# EAGLE library part EP13 (library 0TRAFO)
TRANSFORMER 1 primary winding, 2 secondary windings BLOCK
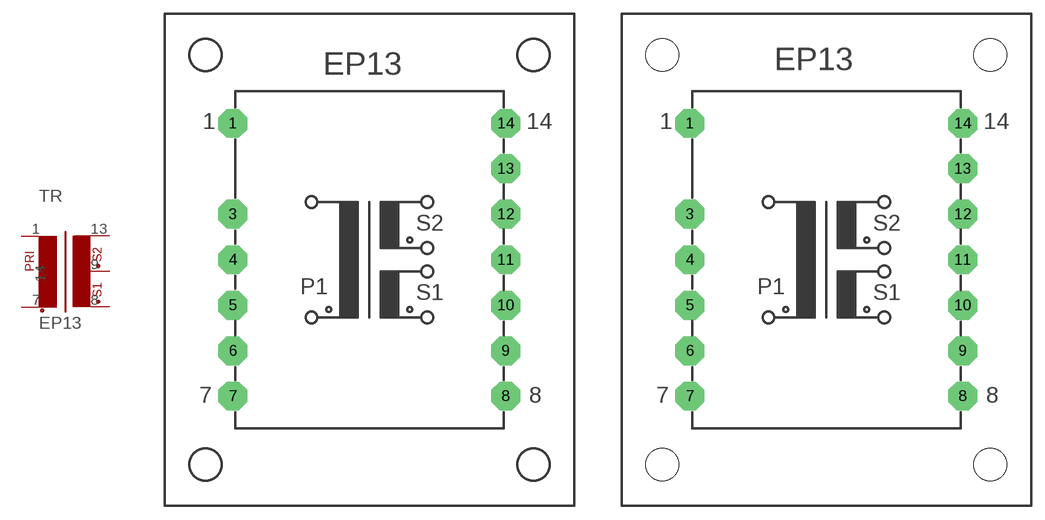
[diagram p30: symbol with the pads of EP13; footprints EP13, EP13B]

Designator prefix TR

## EP13  [EP13]
1  1  pas
7  2  pas
8  3  pas
9  4  pas
13  5  pas
14  6  pas

## EP13MH  [EP13B]
Pads as for EP13

## Footprint EP13 (pad centres in mm)
TRANSFORMER 1 primary winding, 2 secondary windings
drill 1.118 pad 3.175 octagon: 1 -14.986,14.986; 3 -14.986,5.004; 4 -14.986,0; 5 -14.986,-5.004; 6 -14.986,-10.008; 7 -14.986,-14.986; 8 14.986,-14.986; 9 14.986,-10.008; 10 14.986,-5.004; 11 14.986,0; 12 14.986,5.004; 13 14.986,10.008; 14 14.986,14.986

## Footprint EP13B (pad centres in mm)
TRANSFORMER 1 primary winding, 2 secondary windings, mounting holes
drill 1.118 pad 3.175 octagon: 1 -14.986,14.986; 3 -14.986,5.004; 4 -14.986,0; 5 -14.986,-5.004; 6 -14.986,-10.008; 7 -14.986,-14.986; 8 14.986,-14.986; 9 14.986,-10.008; 10 14.986,-5.004; 11 14.986,0; 12 14.986,5.004; 13 14.986,10.008; 14 14.986,14.986
hole 3.607 at -18.009,22.504
hole 3.607 at -18.009,-22.504
hole 3.607 at 18.009,22.504
hole 3.607 at 18.009,-22.504